# EAGLE library part GROVE-CONNECTOR-SMD(4+2P-2.0) (library Seeed-Connector -2016)
320110030
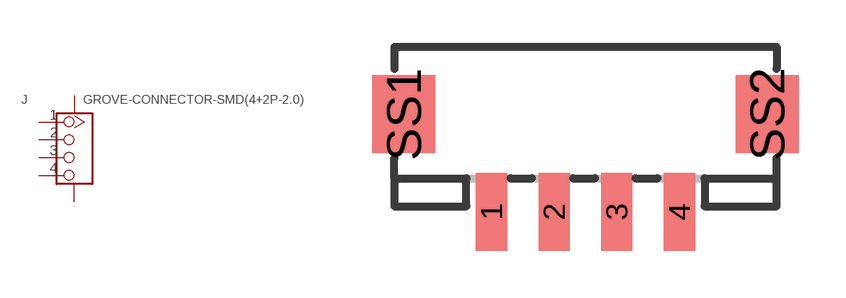
[diagram p0: symbol with the pads of HW4-SMD-2.0; footprint HW4-SMD-2.0]

Designator prefix J

## GROVE-CONNECTOR-SMD(4+2P-2.0) (VALUE: H4P-SMD-2.0)  [HW4-SMD-2.0]
1  1
2  2
3  3
4  4
SS1  SS1
SS2  SS2

## Footprint HW4-SMD-2.0 (pad centres in mm)
smd 1 x 2.5: 1 -3,0; 2 -1,0; 3 1,0; 4 3,0
smd 2 x 2.5: SS1 -5.8,3.123; SS2 5.8,3.123